# Altium schematic symbol library Diode_Schlib.SchLib: 19 symbols
Pins are listed as number, name and electrical type; pins without a type are passive.

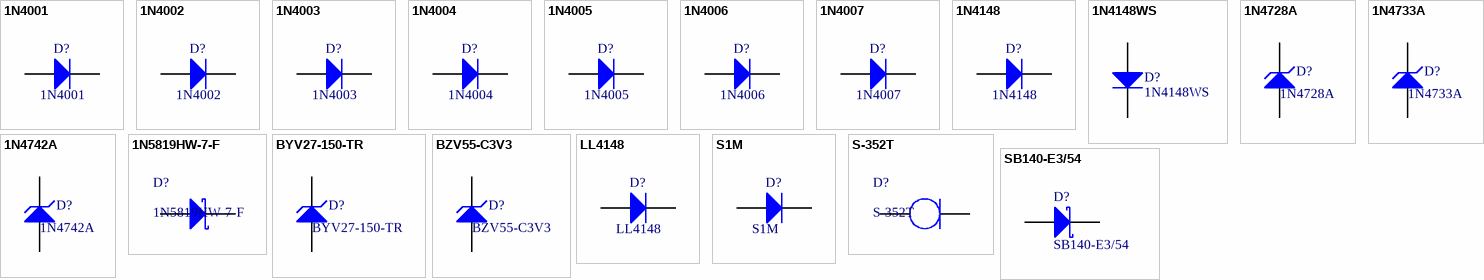
[diagram p0: symbols 1N4001 to SB140-E3/54]

## 1N4001
designator D?
整流器 Vr/50V Io/1A T/R, DO-41; 製造商: Fairchild Semiconductor; 單價: 6.42; 代理商: mouser; 資料手冊: http://www.mouser.com/ds/2/149/1N4001-81693.pdf; 參考網站: http://www.mouser.tw/ProductDetail/Fairchild-Semiconductor/1N4001/?qs=sGAEpiMZZMuQUXCJI7Y4livqf9H1GTKY
footprint DO-41 (Diode, Axial; Body 5.2 x 2.7 mm (LxDia. max), Lead Dia. 0.86 mm (max))
pins: 1 A, 2 K

## 1N4002
designator D?
整流器 100V/1a Rectifier General Purpose, DO-41; 製造商: Fairchild Semiconductor; 單價: 6.42; 代理商: mouser; 資料手冊: http://www.mouser.com/ds/2/149/1N4001-81693.pdf; 參考網站: http://www.mouser.tw/ProductDetail/Fairchild-Semiconductor/1N4002/?qs=sGAEpiMZZMuQUXCJI7Y4lp%252baIPCshsij
footprint DO-41 (Diode, Axial; Body 5.2 x 2.7 mm (LxDia. max), Lead Dia. 0.86 mm (max))
pins: 1 A, 2 K

## 1N4003
designator D?
整流器 200V/1a Rectifier General Purpose, DO-41; 製造商: Fairchild Semiconductor; 單價: 6.42; 代理商: mouser; 資料手冊: http://www.mouser.com/ds/2/149/1N4001-81693.pdf; 參考網站: http://www.mouser.tw/ProductDetail/Fairchild-Semiconductor/1N4003/?qs=sGAEpiMZZMtbRapU8LlZD6Aoap19JQAx%252bfi0jiQK664%3d
footprint DO-41 (Diode, Axial; Body 5.2 x 2.7 mm (LxDia. max), Lead Dia. 0.86 mm (max))
pins: 1 A, 2 K

## 1N4004
designator D?
整流器 Vr/400V Io/1A T/R, DO-41; 製造商: Fairchild Semiconductor; 單價: 6.42; 代理商: mouser; 資料手冊: http://www.mouser.com/ds/2/149/1N4001-81693.pdf; 參考網站: http://www.mouser.tw/ProductDetail/Fairchild-Semiconductor/1N4003/?qs=sGAEpiMZZMtbRapU8LlZD6Aoap19JQAx%252bfi0jiQK664%3d
footprint DO-41 (Diode, Axial; Body 5.2 x 2.7 mm (LxDia. max), Lead Dia. 0.86 mm (max))
pins: 1 A, 2 K

## 1N4005
designator D?
整流器 Vr/600V Io/1A T/R, DO-41; 製造商: Fairchild Semiconductor; 單價: 6.42; 代理商: mouser; 資料手冊: http://www.mouser.com/ds/2/149/1N4001-81693.pdf; 參考網站: http://www.mouser.tw/ProductDetail/Fairchild-Semiconductor/1N4005/?qs=sGAEpiMZZMtbRapU8LlZD6Aoap19JQAxIvAwfHwvd9o%3d
footprint DO-41 (Diode, Axial; Body 5.2 x 2.7 mm (LxDia. max), Lead Dia. 0.86 mm (max))
pins: 1 A, 2 K

## 1N4006
designator D?
整流器 Vr/800V Io/1A T/R, DO-41; 製造商: Fairchild Semiconductor; 單價: 6.42; 代理商: mouser; 資料手冊: http://www.mouser.com/ds/2/149/1N4001-81693.pdf; 參考網站: http://www.mouser.tw/ProductDetail/Fairchild-Semiconductor/1N4006/?qs=sGAEpiMZZMtbRapU8LlZD6Aoap19JQAxruNYTysWAgg%3d
footprint DO-41 (Diode, Axial; Body 5.2 x 2.7 mm (LxDia. max), Lead Dia. 0.86 mm (max))
pins: 1 A, 2 K

## 1N4007
designator D?
整流器 Vr/1000V Io/1A T/R, DO-41; 製造商: Fairchild Semiconductor; 單價: 6.42; 代理商: mouser; 資料手冊: http://www.mouser.com/ds/2/149/1N4001-81693.pdf; 參考網站: http://www.mouser.tw/ProductDetail/Fairchild-Semiconductor/1N4007/?qs=sGAEpiMZZMtbRapU8LlZD6Aoap19JQAx6nozNuy1sTw%3d
footprint DO-41 (Diode, Axial; Body 5.2 x 2.7 mm (LxDia. max), Lead Dia. 0.86 mm (max))
pins: 1 A, 2 K

## 1N4148
designator D?
二極體 - 通用、電源、開關 100V Io/200mA BULK, DO-35; 製造商: Fairchild Semiconductor; 單價: 6.42; 代理商: mouser; 資料手冊: http://www.mouser.com/ds/2/149/1N4001-81693.pdf; 參考網站: http://www.mouser.tw/ProductDetail/Fairchild-Semiconductor/1N4148/?qs=sGAEpiMZZMudZehw8RjeZWbu6z6oTQTL
footprint DO-35 (Diode, Axial; Body 3.8 x 1.9 mm (LxDia. max), Lead Dia. 0.53 mm (max))
pins: 1 A, 2 K

## 1N4148WS
designator D?
二極管 - 通用、電源、開關 Small Signal Diode,  SOD-323F; 單價: 5; 製造商: Fairchild Semiconductor; 代理商: mouser; 參考網站: http://www.mouser.tw/ProductDetail/Fairchild-Semiconductor/1N4148WS/?qs=sGAEpiMZZMtoHjESLttvkr4bXZrJfFziTdC5C0Y1oek%3d; 資料手冊: http://www.mouser.com/ds/2/149/1N4148WS-888323.pdf
footprint SOD-323
pins: 1 A, 2 K

## 1N4728A
designator D?
穩壓二極管 Diode Zener Single 3.3V 5% 1W 2-Pin, DO-41; 製造商: NXP Semiconductors; 代理商: mouser; 單價: 11.06; 參考網站: http://www.mouser.tw/ProductDetail/NXP-Semiconductors/1N4728A113/?qs=sGAEpiMZZMtQ8nqTKtFS%2fMB%2fC95zni11XSmp6cclDLI%3d; 資料手冊: http://www.vishay.com/docs/86042/byv27.pdf
footprint DO-41 (Diode, Axial; Body 5.2 x 2.7 mm (LxDia. max), Lead Dia. 0.86 mm (max))
pins: 1 A, 2 K

## 1N4733A
designator D?
穩壓二極管 Diode Zener Single 5.1V 5% 1W 2-Pin, DO-41; 製造商: NXP Semiconductors; 代理商: mouser; 單價: 11.06; 參考網站: http://www.mouser.tw/ProductDetail/NXP-Semiconductors/1N4733A113/?qs=sGAEpiMZZMtQ8nqTKtFS%2fMB%2fC95zni11SdGMd%252bYSJ6M%3d; 資料手冊: http://www.vishay.com/docs/86042/byv27.pdf
footprint DO-41 (Diode, Axial; Body 5.2 x 2.7 mm (LxDia. max), Lead Dia. 0.86 mm (max))
pins: 1 A, 2 K

## 1N4742A
designator D?
穩壓二極管 Diode Zener Single 12V 5% 1W 2-Pin, DO-41; 製造商: NXP Semiconductors; 代理商: mouser; 單價: 11.06; 參考網站: http://www.mouser.tw/ProductDetail/NXP-Semiconductors/1N4742A133/?qs=sGAEpiMZZMtQ8nqTKtFS%2fISyHb0gtGyWgnZM%2fvjgpsI%3d; 資料手冊: http://www.vishay.com/docs/86042/byv27.pdf
footprint DO-41 (Diode, Axial; Body 5.2 x 2.7 mm (LxDia. max), Lead Dia. 0.86 mm (max))
pins: 1 A, 2 K

## 1N5819HW-7-F
designator D?
肖特基二極體及整流器 Vr/40V Io/1A T/R,SOD-123; 單價: 15.7; 製造商: Diodes Incorporated; 代理商: mouser; 參考網站: http://www.mouser.tw/ProductDetail/Diodes-Incorporated/1N5819HW-7-F/?qs=sGAEpiMZZMvplms98TlKY1XzNZ61pP0JaLiEdHpF5gQ%3d; 資料手冊: http://www.mouser.com/ds/2/115/ds30217-71027.pdf
footprint SOD-123
pins: 1 A, 2 K

## BYV27-150-TR
designator D?
二極體 AVALANCHE 165V 2A, SOD57; 製造商: Vishay Semiconductor Diodes Division; 代理商: digikey; 單價: 7.35240; 參考網站: http://www.digikey.tw/product-detail/zh/BYV27-150-TR/BYV27-150-TR-ND/4827052; 資料手冊: http://www.vishay.com/docs/86042/byv27.pdf
footprint SOD-57
pins: 1 A, 2 K

## BZV55-C3V3
designator D?
穩壓二極管 DIODE ZENER 5 PCT TAPE-7, SOD-80; 製造商: NXP Semiconductors; 代理商: mouser; 單價: 6.78; 參考網站: http://www.mouser.tw/ProductDetail/NXP-Semiconductors/BZV55-C3V3115/?qs=sGAEpiMZZMtQ8nqTKtFS%2fMB%2fC95zni119cfydCmK97o%3d; 資料手冊: http://www.mouser.com/ds/2/302/BZV55_SER-840819.pdf
footprint SOD-80
pins: 1 A, 2 K

## LL4148
designator D?
二極管 - 通用、電源、開關 Small Signal Diode, SOD-80; 製造商: Fairchild Semiconductor; 單價: 3.57; 代理商: mouser; 資料手冊: http://www.mouser.com/ds/2/149/LL4148-889519.pdf; 參考網站: http://www.mouser.tw/ProductDetail/Fairchild-Semiconductor/LL4148/?qs=sGAEpiMZZMtoHjESLttvkveAFmDTG9wNP4HmQeiQCRg%3d
footprint SOD-80
pins: 1 A, 2 K

## S1M
designator D?
整流器 1.0A 1000V, DO-214AC; 製造商: Fairchild Semiconductor; 單價: 10.35; 代理商: mouser; 資料手冊: http://www.mouser.com/ds/2/149/S1M-890072.pdf; 參考網站: http://www.mouser.tw/ProductDetail/Fairchild-Semiconductor/S1M/?qs=sGAEpiMZZMuQUXCJI7Y4lvG3m%2fyT7Vnk
footprint DO-214AC
pins: 1 A, 2 K

## S-352T
designator D?
電流調整器二極管 100V 3.5mA, Rell-S-352T; 製造商: Semitec; 單價: 88.48; 代理商: Mouser; 參考網站: http://www.mouser.tw/ProductDetail/Semitec/S-352T/?qs=sGAEpiMZZMtjJbtednZihq77Es0FXhOt; 資料手冊: http://www.mouser.com/ds/2/362/crd-1407.pdf
footprint Reel-S-352T (整體面積(3.5mm * 1.6mm), 材料部份(2.6mm * 1.6mm))
pins: 1 A, 2 K

## SB140-E3/54
designator D?
蕭特基二極體及整流器 40 Volt 1.0 Amp 50 Amp IFSM, DO-204AL; 單價: 17.13; 製造商: Vishay Semiconductors; 代理商: mouser; 參考網站: http://www.mouser.tw/ProductDetail/Vishay-Semiconductors/SB140-E3-54/?qs=sGAEpiMZZMtbRapU8LlZD2d3dfV7GNHw3i8fHCCRjsw%3d; 資料手冊: http://www.mouser.com/ds/2/427/sb120-108282.pdf
footprint DO-204AL (Diode, Axial; Body 5.2 x 2.7 mm (LxDia. max), Lead Dia. 0.86 mm (max))
pins: 1 A, 2 K